# EAGLE library part ANALOG_DEVICES_ADG888YCPZ-REEL7 (library Upverter Library)
ADI-ADG888-CP-16-4
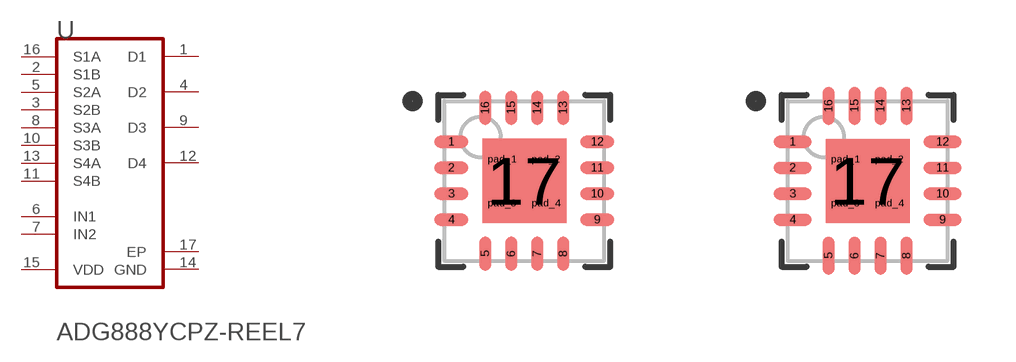
[diagram p0: symbol with the pads of ANALOG_DEVICES_ADG888YCPZ-REEL7_0; footprints ANALOG_DEVICES_ADG888YCPZ-REEL7_0, ANALOG_DEVICES_ADG888YCPZ-REEL7_1]

Designator prefix U

## ANALOG_DEVICES_ADG888YCPZ-REEL7ANALOG_DEVICES_ADG888YCPZ-REEL7_0_0 (Code__JEDEC: MO-220-VGGC; Component_Link_1_Description: Manufacturer URL; Component_Link_1_URL: http://www.analog.com/en/index.html; Component_Link_3_Description: Package Specification; Component_Link_3_URL: http://www.analog.com/static/imported-files/packages/46009454504174339653421710019CP_16_4.pdf; Configuration: SPDT; Datasheet_Version: Rev. A; Id_Is_ON: 200pA, 200pA, 200pA; Is_OFF: 200pA, 200pA, 200pA; MF: Analog Devices; MPN: ADG888YCPZ-REEL7; Max_Pos_Supply: 5.5V; Min_Pos_Supply: 1.8V; Mounting_Technology: Surface Mount; Package_Description: 16-Pin Lead Frame Chip Scale Package, Body 4 x 4 mm, Pitch 0.65 mm; Package_Version: 010606-0, 01/2006; Packing: Reel; Power_Dissipation: 20uW; Ron_ohms: 0.4; Sw_Functions: 2; ciiva_ids: 2910182; datasheet: http://www.analog.com/static/imported-files/data_sheets/ADG888.pdf; footprint_variant_name_0: Level C; footprint_variant_name_1: Level B; footprint_variant_name_2: Level A; import_ts: 1521845051; imported: yes; imported_from: vault; package: CP-16-4; prefix: U; release_date: 1391107399; vault_guid: 6529259E-F40E-4C21-A672-BE2A55751DA1; vault_revision: 8F7708EA-4FAC-4E23-A9C8-D177F4952FE2)  [ANALOG_DEVICES_ADG888YCPZ-REEL7_0]
1  D1  pas
2  S1B  pas
3  S2B  pas
4  D2  pas
5  S2A  pas
6  IN1  in
7  IN2  in
8  S3A  pas
9  D3  pas
10  S3B  pas
11  S4B  pas
12  D4  pas
13  S4A  pas
14  GND  pwr
15  VDD  pwr
16  S1A  pas
17  EP  pas

## ANALOG_DEVICES_ADG888YCPZ-REEL7ANALOG_DEVICES_ADG888YCPZ-REEL7_0_1 (Code__JEDEC: MO-220-VGGC; Component_Link_1_Description: Manufacturer URL; Component_Link_1_URL: http://www.analog.com/en/index.html; Component_Link_3_Description: Package Specification; Component_Link_3_URL: http://www.analog.com/static/imported-files/packages/46009454504174339653421710019CP_16_4.pdf; Configuration: SPDT; Datasheet_Version: Rev. A; Id_Is_ON: 200pA, 200pA, 200pA; Is_OFF: 200pA, 200pA, 200pA; MF: Analog Devices; MPN: ADG888YCPZ-REEL7; Max_Pos_Supply: 5.5V; Min_Pos_Supply: 1.8V; Mounting_Technology: Surface Mount; Package_Description: 16-Pin Lead Frame Chip Scale Package, Body 4 x 4 mm, Pitch 0.65 mm; Package_Version: 010606-0, 01/2006; Packing: Reel; Power_Dissipation: 20uW; Ron_ohms: 0.4; Sw_Functions: 2; ciiva_ids: 2910182; datasheet: http://www.analog.com/static/imported-files/data_sheets/ADG888.pdf; footprint_variant_name_0: Level C; footprint_variant_name_1: Level B; footprint_variant_name_2: Level A; import_ts: 1521845051; imported: yes; imported_from: vault; package: CP-16-4; prefix: U; release_date: 1391107399; vault_guid: 6529259E-F40E-4C21-A672-BE2A55751DA1; vault_revision: 8F7708EA-4FAC-4E23-A9C8-D177F4952FE2)  [ANALOG_DEVICES_ADG888YCPZ-REEL7_1]
Pads as for ANALOG_DEVICES_ADG888YCPZ-REEL7_0

## ANALOG_DEVICES_ADG888YCPZ-REEL7ANALOG_DEVICES_ADG888YCPZ-REEL7_0_2 (Code__JEDEC: MO-220-VGGC; Component_Link_1_Description: Manufacturer URL; Component_Link_1_URL: http://www.analog.com/en/index.html; Component_Link_3_Description: Package Specification; Component_Link_3_URL: http://www.analog.com/static/imported-files/packages/46009454504174339653421710019CP_16_4.pdf; Configuration: SPDT; Datasheet_Version: Rev. A; Id_Is_ON: 200pA, 200pA, 200pA; Is_OFF: 200pA, 200pA, 200pA; MF: Analog Devices; MPN: ADG888YCPZ-REEL7; Max_Pos_Supply: 5.5V; Min_Pos_Supply: 1.8V; Mounting_Technology: Surface Mount; Package_Description: 16-Pin Lead Frame Chip Scale Package, Body 4 x 4 mm, Pitch 0.65 mm; Package_Version: 010606-0, 01/2006; Packing: Reel; Power_Dissipation: 20uW; Ron_ohms: 0.4; Sw_Functions: 2; ciiva_ids: 2910182; datasheet: http://www.analog.com/static/imported-files/data_sheets/ADG888.pdf; footprint_variant_name_0: Level C; footprint_variant_name_1: Level B; footprint_variant_name_2: Level A; import_ts: 1521845051; imported: yes; imported_from: vault; package: CP-16-4; prefix: U; release_date: 1391107399; vault_guid: 6529259E-F40E-4C21-A672-BE2A55751DA1; vault_revision: 8F7708EA-4FAC-4E23-A9C8-D177F4952FE2)  [ANALOG_DEVICES_ADG888YCPZ-REEL7_2]
Pads as for ANALOG_DEVICES_ADG888YCPZ-REEL7_0

## Footprint ANALOG_DEVICES_ADG888YCPZ-REEL7_0 (pad centres in mm)
ADI-ADG888-CP-16-4
smd 0.85 x 0.3: 1 -1.825,0.975; 2 -1.825,0.325; 3 -1.825,-0.325; 4 -1.825,-0.975; 9 1.825,-0.975; 10 1.825,-0.325; 11 1.825,0.325; 12 1.825,0.975
smd 0.3 x 0.85: 5 -0.975,-1.825; 6 -0.325,-1.825; 7 0.325,-1.825; 8 0.975,-1.825; 13 0.975,1.825; 14 0.325,1.825; 15 -0.325,1.825; 16 -0.975,1.825
smd 2.1 x 2.1: 17 0,0
drill 0.2 pad 0.5 round: pad_1 -0.55,0.55; pad_2 0.55,0.55; pad_3 -0.55,-0.55; pad_4 0.55,-0.55

## Footprint ANALOG_DEVICES_ADG888YCPZ-REEL7_1 (pad centres in mm)
ADI-ADG888-CP-16-4
smd 0.95 x 0.3: 1 -1.875,0.975; 2 -1.875,0.325; 3 -1.875,-0.325; 4 -1.875,-0.975; 9 1.875,-0.975; 10 1.875,-0.325; 11 1.875,0.325; 12 1.875,0.975
smd 0.3 x 0.95: 5 -0.975,-1.875; 6 -0.325,-1.875; 7 0.325,-1.875; 8 0.975,-1.875; 13 0.975,1.875; 14 0.325,1.875; 15 -0.325,1.875; 16 -0.975,1.875
smd 2.1 x 2.1: 17 0,0
drill 0.2 pad 0.5 round: pad_1 -0.55,0.55; pad_2 0.55,0.55; pad_3 -0.55,-0.55; pad_4 0.55,-0.55

## Footprint ANALOG_DEVICES_ADG888YCPZ-REEL7_2 (pad centres in mm)
ADI-ADG888-CP-16-4
smd 1.05 x 0.3: 1 -1.925,0.975; 2 -1.925,0.325; 3 -1.925,-0.325; 4 -1.925,-0.975; 9 1.925,-0.975; 10 1.925,-0.325; 11 1.925,0.325; 12 1.925,0.975
smd 0.3 x 1.05: 5 -0.975,-1.925; 6 -0.325,-1.925; 7 0.325,-1.925; 8 0.975,-1.925; 13 0.975,1.925; 14 0.325,1.925; 15 -0.325,1.925; 16 -0.975,1.925
smd 2.1 x 2.1: 17 0,0
drill 0.2 pad 0.5 round: pad_1 -0.55,0.55; pad_2 0.55,0.55; pad_3 -0.55,-0.55; pad_4 0.55,-0.55